# EAGLE library part 691410110012 (library WR-TBL Spring Clamp)
WR-TBL Series 4101 - Screwless Push In 3.5 mm pitch - Horizontal cable entry - THT KIND PROPERTIES Pitch 3.5 mm MATERIAL PROPERTIES Insulator Material PA66 Insulator Flammability Rating UL94 V-0 Insulator Color Black Spring Material Stainless Steel Pin Material Brass Pin Plating Tin over Nickel GENERAL INFORMATION Operating Temperature -40 up to +110 °C ELECTRICAL PROPERTIES IR cULus 7 A IR VDE 13.5 A Working Voltage [cULus] 300 V Working Voltage [VDE] 160 V Withstanding Voltage [cULus] 1600 V (AC) Withstanding Voltage [VDE] 1400 V (AC) Contact Resistance [cULus] 20 mΩ Contact Resistance [VDE] 20 mΩ Mechanical Properties Wire Strip Length 8 up to 9 (mm) Wire Properties Solid Wire Section (AWG) 24 to 18 (AWG) Solid Wire Section (Metric) 0.2 to 1 (mm²) Stranded Wire Section (AWG) 22 to 16 (AWG) Stranded Wire Section (Metric) 0.2 to 1.5 (mm²) CERTIFICATION cULus Approval E315414 VDE Approval 40055316 Packaging Properties Packaging Box Details see: https://www.we-online.com/en/components/products/WR-TBL_SERIES_4101_SCREWLESS_PUSH_IN_3_5MM_PITCH_HORIZONTAL_CABLE_ENTRY_THT Created by Ella Wu 2023-06-13 2023(C) Würth Elektronik
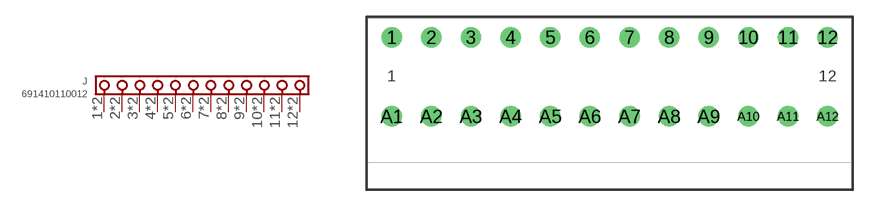
[diagram p145: symbol with the pads of 691410110012; footprint 691410110012]

Designator prefix J

## 691410110012 (APPLICATION: Screwless Push In; DATASHEET: https://www.we-online.com/redexpert/spec/691410110012?ae; IR-UL: 7A; MODULARITY: No; MOUNT: THT; PART-NUMBER: 691410110012; PINS: 12; PITCH: 3.5mm; TYPE: Horizontal; VALUE: 691410110012; WIRE: 22 to 16 (AWG) 0.2 to 1.5 (mm²); WORKING-VOLTAGE-UL: 300V)  [691410110012]
1  1  pas
2  2  pas
3  3  pas
4  4  pas
5  5  pas
6  6  pas
7  7  pas
8  8  pas
9  9  pas
10  10  pas
11  11  pas
12  12  pas
A1  1  pas
A2  2  pas
A3  3  pas
A4  4  pas
A5  5  pas
A6  6  pas
A7  7  pas
A8  8  pas
A9  9  pas
A10  10  pas
A11  11  pas
A12  12  pas

## Footprint 691410110012 (pad centres in mm)
WR-TBL Series 4101 - Screwless Push In 3.5 mm pitch - Horizontal cable entry - THT Pitch 3.5mm, THT, 12pins
drill 1.2: 1 -19.25,3.5; 2 -15.75,3.5; 3 -12.25,3.5; 4 -8.75,3.5; 5 -5.25,3.5; 6 -1.75,3.5; 7 1.75,3.5; 8 5.25,3.5; 9 8.75,3.5; 10 12.25,3.5; 11 15.75,3.5; 12 19.25,3.5; A1 -19.25,-3.5; A2 -15.75,-3.5; A3 -12.25,-3.5; A4 -8.75,-3.5; A5 -5.25,-3.5; A6 -1.75,-3.5; A7 1.75,-3.5; A8 5.25,-3.5; A9 8.75,-3.5; A10 12.25,-3.5; A11 15.75,-3.5; A12 19.25,-3.5